# Altium schematic symbol library Resistors[Pakeista].schlib: 4 symbols
Pins are listed as number, name and electrical type; pins without a type are passive.

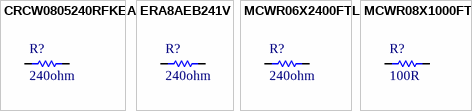
[diagram p0: symbols CRCW0805240RFKEA to MCWR08X1000FTL]

## CRCW0805240RFKEA
designator R?, comment 240ohm
RES 240, ±1%, 125mW, 150V, 0805 [2012 Metric], Thick Film; Manufacturer: VISHAY; Manufacturer Part Number: CRCW0805240RFKEA; Temperature Coefficient: ± 100ppm/K; Value: 240ohm; Supplier 1: Farnell; Supplier Part Number 1: 1652963; Tollerance: ± 1%; Power: 125mW; Voltage: 150V; Package: 0805 [2012 Metric]; Part Type: Thick Film; ComponentLink1Description: http://www.farnell.com/datasheets/2310790.pdf; ComponentLink1URL: https://lt.farnell.com/vishay/crcw0805240rfkea/res-240r-1-0-125w-0805-thick-film/dp/1652963; Mounting: SMD
footprint RESC2012N (Chip Resistor, Body 2.0x1.3mm, IPC Medium Density)
pins: 1, 2
1 alternate drawing of the same symbol

## ERA8AEB241V
designator R?, comment 240ohm
RES 240, ±1%, 250mW, 150V, 1206 [3216 Metric], Metal Film (Thin Film); Manufacturer: PANASONIC; Manufacturer Part Number: ERA8AEB241V; Tollerance: ± 0.1%; Temperature Coefficient: ± 25ppm/°C; Value: 240ohm; Supplier 1: Farnell; Supplier Part Number 1: 1841741; Power: 250mW; Voltage: 150V; Package: 1206 [3216 Metric]; Part Type: Metal Film (Thin Film); ComponentLink1Description: http://industrial.panasonic.com/cdbs/www-data/pdf/RDM0000/AOA0000C307.pdf; ComponentLink1URL: https://lt.farnell.com/panasonic/era8aeb241v/res-240r-0-1-0-25w-1206-metal/dp/1841741; Mounting: SMD
footprint RESC3216N (Chip Resistor, Body 3.2x1.6mm, IPC Medium Density)
pins: 1, 2
1 alternate drawing of the same symbol

## MCWR06X2400FTL
designator R?, comment 240ohm
RES 240, ±1%, 100mW, 75V, 0603 [1608 Metric], Thick Film; Manufacturer: MULTICOMP PRO; Manufacturer Part Number: MCWR06X2400FTL; Temperature Coefficient: ± 100ppm/°C; Value: 240ohm; Supplier 1: Farnell; Supplier Part Number 1: 2447305; Tollerance: ± 1%; Power: 100mW; Voltage: 75V; Package: 0603 [1608 Metric]; Part Type: Thick Film; ComponentLink1Description: http://www.farnell.com/datasheets/2860681.pdf; ComponentLink1URL: https://lt.farnell.com/multicomp/mcwr06x2400ftl/res-240r-1-0-1w-thick-film/dp/2447305; Mounting: SMD
footprint RESC1608N (Chip Resistor, Body 1.6x0.8mm, IPC Medium Density)
pins: 1, 2
1 alternate drawing of the same symbol

## MCWR08X1000FTL
designator R?, comment 100R
RES 100K, ±10%, 125mW, 150V, 0805 [2012 Metric], Thick Film, MCWR Series; Manufacturer: MULTICOMP; Manufacturer Part Number: MCWR08X1000FTL; Tollerance: ±1%; Temperature Coefficient: ±100ppm/°C; Value: 100R; Supplier 1: Farnell; Supplier Part Number 1: 2447552; Power: 125mW; Voltage: 150V; Package: 0805 [2012 Metric]; Part Type: Thick Film; ComponentLink1Description: Datasheet; ComponentLink1URL: http://www.farnell.com/datasheets/2860681.pdf; Mounting: SMD
footprint RESC2012N (Chip Resistor, Body 2.0x1.3mm, IPC Medium Density)
pins: 1, 2
1 alternate drawing of the same symbol